# EAGLE library part FT232HQ (library swift-nav)
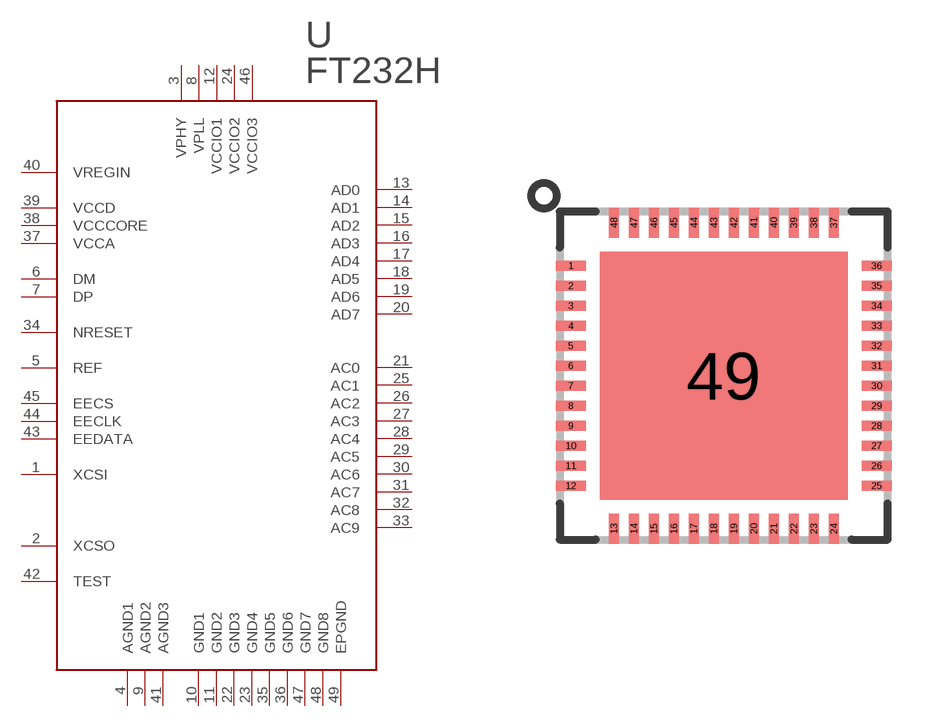
[diagram p0: symbol with the pads of FT232HQ; footprint FT232HQ]

Designator prefix -

## FT232HQ  [FT232HQ]
1  XCSI  in
2  XCSO  out
3  VPHY  pwr
4  AGND1  pwr
5  REF  in
6  DM
7  DP
8  VPLL  pwr
9  AGND2  pwr
10  GND1  pwr
11  GND2  pwr
12  VCCIO1  pwr
13  AD0
14  AD1
15  AD2
16  AD3
17  AD4
18  AD5
19  AD6
20  AD7
21  AC0
22  GND3  pwr
23  GND4  pwr
24  VCCIO2  pwr
25  AC1
26  AC2
27  AC3
28  AC4
29  AC5
30  AC6
31  AC7
32  AC8
33  AC9
34  NRESET  in
35  GND5  pwr
36  GND6  pwr
37  VCCA  out
38  VCCCORE  out
39  VCCD
40  VREGIN  pwr
41  AGND3  pwr
42  TEST  in
43  EEDATA
44  EECLK  out
45  EECS
46  VCCIO3  pwr
47  GND7  pwr
48  GND8  pwr
49  EPGND  pwr

## Footprint FT232HQ (pad centres in mm)
smd 0.75 x 0.25: 1 -3.825,2.75; 2 -3.825,2.25; 3 -3.825,1.75; 4 -3.825,1.25; 5 -3.825,0.75; 6 -3.825,0.25; 7 -3.825,-0.25; 8 -3.825,-0.75; 9 -3.825,-1.25; 10 -3.825,-1.75; 11 -3.825,-2.25; 12 -3.825,-2.75; 25 3.825,-2.75; 26 3.825,-2.25; 27 3.825,-1.75; 28 3.825,-1.25; 29 3.825,-0.75; 30 3.825,-0.25; 31 3.825,0.25; 32 3.825,0.75; 33 3.825,1.25; 34 3.825,1.75; 35 3.825,2.25; 36 3.825,2.75
smd 0.25 x 0.75: 13 -2.75,-3.825; 14 -2.25,-3.825; 15 -1.75,-3.825; 16 -1.25,-3.825; 17 -0.75,-3.825; 18 -0.25,-3.825; 19 0.25,-3.825; 20 0.75,-3.825; 21 1.25,-3.825; 22 1.75,-3.825; 23 2.25,-3.825; 24 2.75,-3.825; 37 2.75,3.825; 38 2.25,3.825; 39 1.75,3.825; 40 1.25,3.825; 41 0.75,3.825; 42 0.25,3.825; 43 -0.25,3.825; 44 -0.75,3.825; 45 -1.25,3.825; 46 -1.75,3.825; 47 -2.25,3.825; 48 -2.75,3.825
smd 6.2 x 6.2: 49 0,0